# Altium footprint library USB-C_Power_Supply_PCB.PcbLib: 19 footprints (part 2 of 2)
Each footprint in its own frame and in the unit in brackets; x right, y up, seen from the top. Pads: shape width x height; smd on the part's side, far side on the other; paste and mask are expansions set on the pad; w line width, h text height; cw(c..) or ccw(c..) is an arc to the next point about the centre after c.
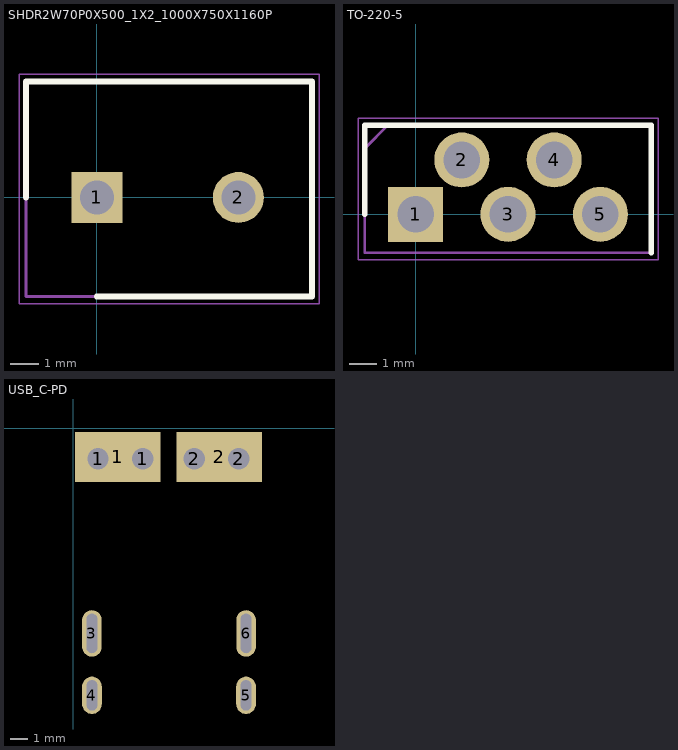
[diagram p1: the footprints below, top view; thin cyan lines are the x and y axes]

## SHDR2W70P0X500_1X2_1000X750X1160P [mm]
pads (2):
  rect 1.8x1.8 hole 1.2: 1(0,0)
  round 1.8 hole 1.2: 2(5,0)
Top Overlay:
  lines w0.2: -2.5,0 -2.5,4.1 7.6,4.1 7.6,-3.5 0,-3.5
Mechanical 13:
  lines w0.1: -2.5,-3.5 -2.5,4.1 7.6,4.1 7.6,-3.5 -2.5,-3.5
Mechanical 15:
  lines w0.05: -2.75,-3.75 -2.75,4.35 7.85,4.35 7.85,-3.75 -2.75,-3.75
3D body "691137710002.stp": height 11.5, standoff -3.6, extent -2.45,-3.45 7.55,4.05

## TO-220-5 [mm]
pads (5):
  rect 2.025x2.025 hole 1.35: 1(0,0)
  round 2.025 hole 1.35: 2(1.7,2) 3(3.4,0) 4(5.1,2) 5(6.8,0)
Top Overlay:
  lines w0.2: -1.87,0 -1.87,3.28 8.67,3.28 8.67,-1.42
Mechanical 13:
  lines w0.1: -1.87,2.43 -1.02,3.28 ; -1.87,-1.42 -1.87,3.28 8.67,3.28 8.67,-1.42 -1.87,-1.42
Mechanical 15:
  lines w0.05: -2.12,-1.67 -2.12,3.53 8.92,3.53 8.92,-1.67 -2.12,-1.67
3D body "LM2576WT.stp": height 17.61, standoff -6, extent -1.68,-1.42 8.48,3.28

## USB_C-PD [mm]
pads (10):
  round 2 hole 1.2: 1(1.4,-1.7) 1(3.9,-1.7) 2(6.8,-1.7) 2(9.3,-1.7)
  rect 4.8x2.8 smd: 1(2.5,-1.6) 2(8.2,-1.6)
  oval 1.1x2.6 hole 0.6 slot 2.2 at 90 deg: 3(1.06,-11.5) 6(9.7,-11.5)
  oval 1.1x2.1 hole 0.6 slot 1.7 at 90 deg: 4(1.062,-14.967) 5(9.698,-14.967)
3D body "USB4125-GF-A-0190.stp": height 4.96, standoff -0.45, extent 1.035,-17.638 9.975,-10.738
3D body: height 1.7, standoff 0, extent 0,-16.5 10.7,0